# Altium footprint library Cypress Footprints.PcbLib: 193 footprints (part 2 of 13)
Each footprint in its own frame and in the unit in brackets; x right, y up, seen from the top. Pads: shape width x height; smd on the part's side, far side on the other; paste and mask are expansions set on the pad; w line width, h text height; cw(c..) or ccw(c..) is an arc to the next point about the centre after c.
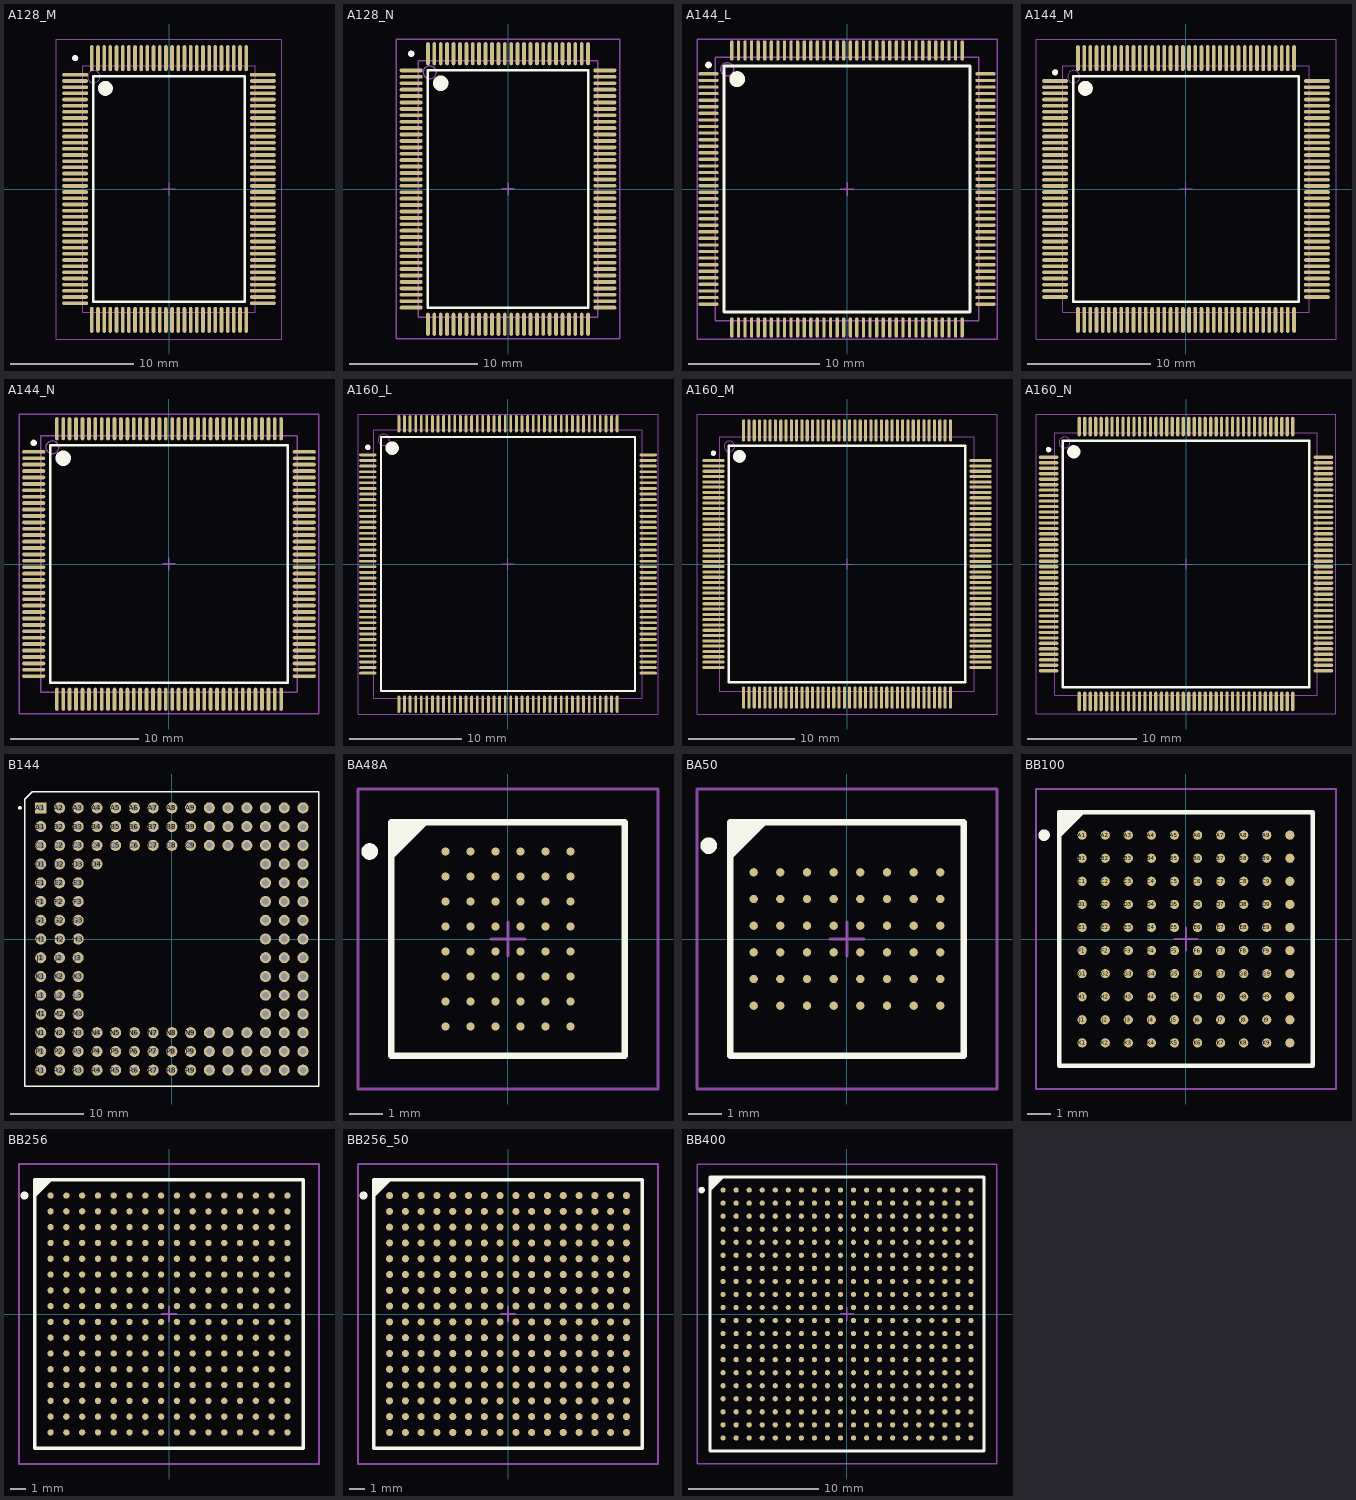
[diagram p1: the footprints below, top view; thin cyan lines are the x and y axes]

## A128_M [mm] "128-Pin Thin Quad Flat Pack Rectangular 0.5 mm Pitch, IPC Low Density"
height 1.6
pads (128):
  oval 2.1x0.3 smd: 1(-7.6,9.25) 2(-7.6,8.75) 3(-7.6,8.25) 4(-7.6,7.75) 5(-7.6,7.25) 6(-7.6,6.75) 7(-7.6,6.25) 8(-7.6,5.75) 9(-7.6,5.25) 10(-7.6,4.75) 11(-7.6,4.25) 12(-7.6,3.75) 13(-7.6,3.25) 14(-7.6,2.75) 15(-7.6,2.25) 16(-7.6,1.75) 17(-7.6,1.25) 18(-7.6,0.75) 19(-7.6,0.25) 20(-7.6,-0.25) 21(-7.6,-0.75) 22(-7.6,-1.25) 23(-7.6,-1.75) 24(-7.6,-2.25) 25(-7.6,-2.75) 26(-7.6,-3.25) 27(-7.6,-3.75) 28(-7.6,-4.25) 29(-7.6,-4.75) 30(-7.6,-5.25) 31(-7.6,-5.75) 32(-7.6,-6.25) 33(-7.6,-6.75) 34(-7.6,-7.25) 35(-7.6,-7.75) 36(-7.6,-8.25) 37(-7.6,-8.75) 38(-7.6,-9.25) 65(7.6,-9.25) 66(7.6,-8.75) 67(7.6,-8.25) 68(7.6,-7.75) 69(7.6,-7.25) 70(7.6,-6.75) 71(7.6,-6.25) 72(7.6,-5.75) 73(7.6,-5.25) 74(7.6,-4.75) 75(7.6,-4.25) 76(7.6,-3.75) 77(7.6,-3.25) 78(7.6,-2.75) 79(7.6,-2.25) 80(7.6,-1.75) 81(7.6,-1.25) 82(7.6,-0.75) 83(7.6,-0.25) 84(7.6,0.25) 85(7.6,0.75) 86(7.6,1.25) 87(7.6,1.75) 88(7.6,2.25) 89(7.6,2.75) 90(7.6,3.25) 91(7.6,3.75) 92(7.6,4.25) 93(7.6,4.75) 94(7.6,5.25) 95(7.6,5.75) 96(7.6,6.25) 97(7.6,6.75) 98(7.6,7.25) 99(7.6,7.75) 100(7.6,8.25) 101(7.6,8.75) 102(7.6,9.25)
  oval 0.3x2.1 smd: 39(-6.25,-10.6) 40(-5.75,-10.6) 41(-5.25,-10.6) 42(-4.75,-10.6) 43(-4.25,-10.6) 44(-3.75,-10.6) 45(-3.25,-10.6) 46(-2.75,-10.6) 47(-2.25,-10.6) 48(-1.75,-10.6) 49(-1.25,-10.6) 50(-0.75,-10.6) 51(-0.25,-10.6) 52(0.25,-10.6) 53(0.75,-10.6) 54(1.25,-10.6) 55(1.75,-10.6) 56(2.25,-10.6) 57(2.75,-10.6) 58(3.25,-10.6) 59(3.75,-10.6) 60(4.25,-10.6) 61(4.75,-10.6) 62(5.25,-10.6) 63(5.75,-10.6) 64(6.25,-10.6) 103(6.25,10.6) 104(5.75,10.6) 105(5.25,10.6) 106(4.75,10.6) 107(4.25,10.6) 108(3.75,10.6) 109(3.25,10.6) 110(2.75,10.6) 111(2.25,10.6) 112(1.75,10.6) 113(1.25,10.6) 114(0.75,10.6) 115(0.25,10.6) 116(-0.25,10.6) 117(-0.75,10.6) 118(-1.25,10.6) 119(-1.75,10.6) 120(-2.25,10.6) 121(-2.75,10.6) 122(-3.25,10.6) 123(-3.75,10.6) 124(-4.25,10.6) 125(-4.75,10.6) 126(-5.25,10.6) 127(-5.75,10.6) 128(-6.25,10.6)
Top Overlay:
  circle w0.25: c-7.6,10.6 r0.125
  circle w0.6: c-5.15,8.15 r0.3
  lines w0.2: -6.15,-9.15 -6.15,9.15 6.15,9.15 6.15,-9.15 -6.15,-9.15
Mechanical 13:
  circle w0.1: c-6.1,9.1 r0.5
  lines w0.1: -7,-10 -7,10 7,10 7,-10 -7,-10
Mechanical 15:
  lines w0.1: -0.5,0 0.5,0 ; 0,-0.5 0,0.5 ; -9.15,-12.15 -9.15,12.15 9.15,12.15 9.15,-12.15 -9.15,-12.15
3D body: height 1.6, standoff 0, extent -7,-10 7,10

## A128_N [mm] "128-Pin Thin Quad Flat Pack Rectangular 0.5 mm Pitch, IPC Medium Density"
height 1.6
pads (128):
  oval 1.8x0.3 smd: 1(-7.55,9.25) 2(-7.55,8.75) 3(-7.55,8.25) 4(-7.55,7.75) 5(-7.55,7.25) 6(-7.55,6.75) 7(-7.55,6.25) 8(-7.55,5.75) 9(-7.55,5.25) 10(-7.55,4.75) 11(-7.55,4.25) 12(-7.55,3.75) 13(-7.55,3.25) 14(-7.55,2.75) 15(-7.55,2.25) 16(-7.55,1.75) 17(-7.55,1.25) 18(-7.55,0.75) 19(-7.55,0.25) 20(-7.55,-0.25) 21(-7.55,-0.75) 22(-7.55,-1.25) 23(-7.55,-1.75) 24(-7.55,-2.25) 25(-7.55,-2.75) 26(-7.55,-3.25) 27(-7.55,-3.75) 28(-7.55,-4.25) 29(-7.55,-4.75) 30(-7.55,-5.25) 31(-7.55,-5.75) 32(-7.55,-6.25) 33(-7.55,-6.75) 34(-7.55,-7.25) 35(-7.55,-7.75) 36(-7.55,-8.25) 37(-7.55,-8.75) 38(-7.55,-9.25) 65(7.55,-9.25) 66(7.55,-8.75) 67(7.55,-8.25) 68(7.55,-7.75) 69(7.55,-7.25) 70(7.55,-6.75) 71(7.55,-6.25) 72(7.55,-5.75) 73(7.55,-5.25) 74(7.55,-4.75) 75(7.55,-4.25) 76(7.55,-3.75) 77(7.55,-3.25) 78(7.55,-2.75) 79(7.55,-2.25) 80(7.55,-1.75) 81(7.55,-1.25) 82(7.55,-0.75) 83(7.55,-0.25) 84(7.55,0.25) 85(7.55,0.75) 86(7.55,1.25) 87(7.55,1.75) 88(7.55,2.25) 89(7.55,2.75) 90(7.55,3.25) 91(7.55,3.75) 92(7.55,4.25) 93(7.55,4.75) 94(7.55,5.25) 95(7.55,5.75) 96(7.55,6.25) 97(7.55,6.75) 98(7.55,7.25) 99(7.55,7.75) 100(7.55,8.25) 101(7.55,8.75) 102(7.55,9.25)
  oval 0.3x1.8 smd: 39(-6.25,-10.55) 40(-5.75,-10.55) 41(-5.25,-10.55) 42(-4.75,-10.55) 43(-4.25,-10.55) 44(-3.75,-10.55) 45(-3.25,-10.55) 46(-2.75,-10.55) 47(-2.25,-10.55) 48(-1.75,-10.55) 49(-1.25,-10.55) 50(-0.75,-10.55) 51(-0.25,-10.55) 52(0.25,-10.55) 53(0.75,-10.55) 54(1.25,-10.55) 55(1.75,-10.55) 56(2.25,-10.55) 57(2.75,-10.55) 58(3.25,-10.55) 59(3.75,-10.55) 60(4.25,-10.55) 61(4.75,-10.55) 62(5.25,-10.55) 63(5.75,-10.55) 64(6.25,-10.55) 103(6.25,10.55) 104(5.75,10.55) 105(5.25,10.55) 106(4.75,10.55) 107(4.25,10.55) 108(3.75,10.55) 109(3.25,10.55) 110(2.75,10.55) 111(2.25,10.55) 112(1.75,10.55) 113(1.25,10.55) 114(0.75,10.55) 115(0.25,10.55) 116(-0.25,10.55) 117(-0.75,10.55) 118(-1.25,10.55) 119(-1.75,10.55) 120(-2.25,10.55) 121(-2.75,10.55) 122(-3.25,10.55) 123(-3.75,10.55) 124(-4.25,10.55) 125(-4.75,10.55) 126(-5.25,10.55) 127(-5.75,10.55) 128(-6.25,10.55)
Top Overlay:
  circle w0.25: c-7.55,10.55 r0.125
  circle w0.6: c-5.25,8.25 r0.3
  lines w0.2: -6.25,-9.25 -6.25,9.25 6.25,9.25 6.25,-9.25 -6.25,-9.25
Mechanical 13:
  circle w0.1: c-6.1,9.1 r0.5
  lines w0.1: -7,-10 -7,10 7,10 7,-10 -7,-10
Mechanical 15:
  lines w0.1: -0.5,0 0.5,0 ; 0,-0.5 0,0.5 ; -8.7,-11.7 -8.7,11.7 8.7,11.7 8.7,-11.7 -8.7,-11.7
3D body: height 1.6, standoff 0, extent -7,-10 7,10

## A144_L [mm] "144-Pin Thin Quad Flat Pack 0.5 mm Pitch, IPC High Density"
height 1.6
pads (144):
  oval 1.55x0.25 smd: 1(-10.525,8.75) 2(-10.525,8.25) 3(-10.525,7.75) 4(-10.525,7.25) 5(-10.525,6.75) 6(-10.525,6.25) 7(-10.525,5.75) 8(-10.525,5.25) 9(-10.525,4.75) 10(-10.525,4.25) 11(-10.525,3.75) 12(-10.525,3.25) 13(-10.525,2.75) 14(-10.525,2.25) 15(-10.525,1.75) 16(-10.525,1.25) 17(-10.525,0.75) 18(-10.525,0.25) 19(-10.525,-0.25) 20(-10.525,-0.75) 21(-10.525,-1.25) 22(-10.525,-1.75) 23(-10.525,-2.25) 24(-10.525,-2.75) 25(-10.525,-3.25) 26(-10.525,-3.75) 27(-10.525,-4.25) 28(-10.525,-4.75) 29(-10.525,-5.25) 30(-10.525,-5.75) 31(-10.525,-6.25) 32(-10.525,-6.75) 33(-10.525,-7.25) 34(-10.525,-7.75) 35(-10.525,-8.25) 36(-10.525,-8.75) 73(10.525,-8.75) 74(10.525,-8.25) 75(10.525,-7.75) 76(10.525,-7.25) 77(10.525,-6.75) 78(10.525,-6.25) 79(10.525,-5.75) 80(10.525,-5.25) 81(10.525,-4.75) 82(10.525,-4.25) 83(10.525,-3.75) 84(10.525,-3.25) 85(10.525,-2.75) 86(10.525,-2.25) 87(10.525,-1.75) 88(10.525,-1.25) 89(10.525,-0.75) 90(10.525,-0.25) 91(10.525,0.25) 92(10.525,0.75) 93(10.525,1.25) 94(10.525,1.75) 95(10.525,2.25) 96(10.525,2.75) 97(10.525,3.25) 98(10.525,3.75) 99(10.525,4.25) 100(10.525,4.75) 101(10.525,5.25) 102(10.525,5.75) 103(10.525,6.25) 104(10.525,6.75) 105(10.525,7.25) 106(10.525,7.75) 107(10.525,8.25) 108(10.525,8.75)
  oval 0.25x1.55 smd: 37(-8.75,-10.525) 38(-8.25,-10.525) 39(-7.75,-10.525) 40(-7.25,-10.525) 41(-6.75,-10.525) 42(-6.25,-10.525) 43(-5.75,-10.525) 44(-5.25,-10.525) 45(-4.75,-10.525) 46(-4.25,-10.525) 47(-3.75,-10.525) 48(-3.25,-10.525) 49(-2.75,-10.525) 50(-2.25,-10.525) 51(-1.75,-10.525) 52(-1.25,-10.525) 53(-0.75,-10.525) 54(-0.25,-10.525) 55(0.25,-10.525) 56(0.75,-10.525) 57(1.25,-10.525) 58(1.75,-10.525) 59(2.25,-10.525) 60(2.75,-10.525) 61(3.25,-10.525) 62(3.75,-10.525) 63(4.25,-10.525) 64(4.75,-10.525) 65(5.25,-10.525) 66(5.75,-10.525) 67(6.25,-10.525) 68(6.75,-10.525) 69(7.25,-10.525) 70(7.75,-10.525) 71(8.25,-10.525) 72(8.75,-10.525) 109(8.75,10.525) 110(8.25,10.525) 111(7.75,10.525) 112(7.25,10.525) 113(6.75,10.525) 114(6.25,10.525) 115(5.75,10.525) 116(5.25,10.525) 117(4.75,10.525) 118(4.25,10.525) 119(3.75,10.525) 120(3.25,10.525) 121(2.75,10.525) 122(2.25,10.525) 123(1.75,10.525) 124(1.25,10.525) 125(0.75,10.525) 126(0.25,10.525) 127(-0.25,10.525) 128(-0.75,10.525) 129(-1.25,10.525) 130(-1.75,10.525) 131(-2.25,10.525) 132(-2.75,10.525) 133(-3.25,10.525) 134(-3.75,10.525) 135(-4.25,10.525) 136(-4.75,10.525) 137(-5.25,10.525) 138(-5.75,10.525) 139(-6.25,10.525) 140(-6.75,10.525) 141(-7.25,10.525) 142(-7.75,10.525) 143(-8.25,10.525) 144(-8.75,10.525)
Top Overlay:
  circle w0.6: c-8.35,8.35 r0.3
  circle w0.25: c-10.525,9.425 r0.125
  lines w0.2: -9.35,-9.35 9.35,-9.35 9.35,9.35 -9.35,9.35 -9.35,-9.35
Mechanical 13:
  circle w0.1: c-9.1,9.1 r0.5
  lines w0.1: -10,-10 10,-10 10,10 -10,10 -10,-10
Mechanical 15:
  lines w0.1: -0.5,0 0.5,0 ; 0,-0.5 0,0.5 ; -11.4,-11.4 11.4,-11.4 11.4,11.4 -11.4,11.4 -11.4,-11.4
3D body: height 1.6, standoff 0, extent -10,-10 10,10

## A144_M [mm] "144-Pin Thin Quad Flat Pack 0.5 mm Pitch, IPC Low Density"
height 1.6
pads (144):
  oval 2.1x0.3 smd: 1(-10.6,8.75) 2(-10.6,8.25) 3(-10.6,7.75) 4(-10.6,7.25) 5(-10.6,6.75) 6(-10.6,6.25) 7(-10.6,5.75) 8(-10.6,5.25) 9(-10.6,4.75) 10(-10.6,4.25) 11(-10.6,3.75) 12(-10.6,3.25) 13(-10.6,2.75) 14(-10.6,2.25) 15(-10.6,1.75) 16(-10.6,1.25) 17(-10.6,0.75) 18(-10.6,0.25) 19(-10.6,-0.25) 20(-10.6,-0.75) 21(-10.6,-1.25) 22(-10.6,-1.75) 23(-10.6,-2.25) 24(-10.6,-2.75) 25(-10.6,-3.25) 26(-10.6,-3.75) 27(-10.6,-4.25) 28(-10.6,-4.75) 29(-10.6,-5.25) 30(-10.6,-5.75) 31(-10.6,-6.25) 32(-10.6,-6.75) 33(-10.6,-7.25) 34(-10.6,-7.75) 35(-10.6,-8.25) 36(-10.6,-8.75) 73(10.6,-8.75) 74(10.6,-8.25) 75(10.6,-7.75) 76(10.6,-7.25) 77(10.6,-6.75) 78(10.6,-6.25) 79(10.6,-5.75) 80(10.6,-5.25) 81(10.6,-4.75) 82(10.6,-4.25) 83(10.6,-3.75) 84(10.6,-3.25) 85(10.6,-2.75) 86(10.6,-2.25) 87(10.6,-1.75) 88(10.6,-1.25) 89(10.6,-0.75) 90(10.6,-0.25) 91(10.6,0.25) 92(10.6,0.75) 93(10.6,1.25) 94(10.6,1.75) 95(10.6,2.25) 96(10.6,2.75) 97(10.6,3.25) 98(10.6,3.75) 99(10.6,4.25) 100(10.6,4.75) 101(10.6,5.25) 102(10.6,5.75) 103(10.6,6.25) 104(10.6,6.75) 105(10.6,7.25) 106(10.6,7.75) 107(10.6,8.25) 108(10.6,8.75)
  oval 0.3x2.1 smd: 37(-8.75,-10.6) 38(-8.25,-10.6) 39(-7.75,-10.6) 40(-7.25,-10.6) 41(-6.75,-10.6) 42(-6.25,-10.6) 43(-5.75,-10.6) 44(-5.25,-10.6) 45(-4.75,-10.6) 46(-4.25,-10.6) 47(-3.75,-10.6) 48(-3.25,-10.6) 49(-2.75,-10.6) 50(-2.25,-10.6) 51(-1.75,-10.6) 52(-1.25,-10.6) 53(-0.75,-10.6) 54(-0.25,-10.6) 55(0.25,-10.6) 56(0.75,-10.6) 57(1.25,-10.6) 58(1.75,-10.6) 59(2.25,-10.6) 60(2.75,-10.6) 61(3.25,-10.6) 62(3.75,-10.6) 63(4.25,-10.6) 64(4.75,-10.6) 65(5.25,-10.6) 66(5.75,-10.6) 67(6.25,-10.6) 68(6.75,-10.6) 69(7.25,-10.6) 70(7.75,-10.6) 71(8.25,-10.6) 72(8.75,-10.6) 109(8.75,10.6) 110(8.25,10.6) 111(7.75,10.6) 112(7.25,10.6) 113(6.75,10.6) 114(6.25,10.6) 115(5.75,10.6) 116(5.25,10.6) 117(4.75,10.6) 118(4.25,10.6) 119(3.75,10.6) 120(3.25,10.6) 121(2.75,10.6) 122(2.25,10.6) 123(1.75,10.6) 124(1.25,10.6) 125(0.75,10.6) 126(0.25,10.6) 127(-0.25,10.6) 128(-0.75,10.6) 129(-1.25,10.6) 130(-1.75,10.6) 131(-2.25,10.6) 132(-2.75,10.6) 133(-3.25,10.6) 134(-3.75,10.6) 135(-4.25,10.6) 136(-4.75,10.6) 137(-5.25,10.6) 138(-5.75,10.6) 139(-6.25,10.6) 140(-6.75,10.6) 141(-7.25,10.6) 142(-7.75,10.6) 143(-8.25,10.6) 144(-8.75,10.6)
Top Overlay:
  circle w0.6: c-8.15,8.15 r0.3
  circle w0.25: c-10.6,9.45 r0.125
  lines w0.2: -9.15,-9.15 9.15,-9.15 9.15,9.15 -9.15,9.15 -9.15,-9.15
Mechanical 13:
  circle w0.1: c-9.1,9.1 r0.5
  lines w0.1: -10,-10 10,-10 10,10 -10,10 -10,-10
Mechanical 15:
  lines w0.1: -0.5,0 0.5,0 ; 0,-0.5 0,0.5 ; -12.15,-12.15 12.15,-12.15 12.15,12.15 -12.15,12.15 -12.15,-12.15
3D body: height 1.6, standoff 0, extent -10,-10 10,10

## A144_N [mm] "144-Pin Thin Quad Flat Pack 0.5 mm Pitch, IPC Medium Density"
height 1.6
pads (144):
  oval 1.8x0.3 smd: 1(-10.55,8.75) 2(-10.55,8.25) 3(-10.55,7.75) 4(-10.55,7.25) 5(-10.55,6.75) 6(-10.55,6.25) 7(-10.55,5.75) 8(-10.55,5.25) 9(-10.55,4.75) 10(-10.55,4.25) 11(-10.55,3.75) 12(-10.55,3.25) 13(-10.55,2.75) 14(-10.55,2.25) 15(-10.55,1.75) 16(-10.55,1.25) 17(-10.55,0.75) 18(-10.55,0.25) 19(-10.55,-0.25) 20(-10.55,-0.75) 21(-10.55,-1.25) 22(-10.55,-1.75) 23(-10.55,-2.25) 24(-10.55,-2.75) 25(-10.55,-3.25) 26(-10.55,-3.75) 27(-10.55,-4.25) 28(-10.55,-4.75) 29(-10.55,-5.25) 30(-10.55,-5.75) 31(-10.55,-6.25) 32(-10.55,-6.75) 33(-10.55,-7.25) 34(-10.55,-7.75) 35(-10.55,-8.25) 36(-10.55,-8.75) 73(10.55,-8.75) 74(10.55,-8.25) 75(10.55,-7.75) 76(10.55,-7.25) 77(10.55,-6.75) 78(10.55,-6.25) 79(10.55,-5.75) 80(10.55,-5.25) 81(10.55,-4.75) 82(10.55,-4.25) 83(10.55,-3.75) 84(10.55,-3.25) 85(10.55,-2.75) 86(10.55,-2.25) 87(10.55,-1.75) 88(10.55,-1.25) 89(10.55,-0.75) 90(10.55,-0.25) 91(10.55,0.25) 92(10.55,0.75) 93(10.55,1.25) 94(10.55,1.75) 95(10.55,2.25) 96(10.55,2.75) 97(10.55,3.25) 98(10.55,3.75) 99(10.55,4.25) 100(10.55,4.75) 101(10.55,5.25) 102(10.55,5.75) 103(10.55,6.25) 104(10.55,6.75) 105(10.55,7.25) 106(10.55,7.75) 107(10.55,8.25) 108(10.55,8.75)
  oval 0.3x1.8 smd: 37(-8.75,-10.55) 38(-8.25,-10.55) 39(-7.75,-10.55) 40(-7.25,-10.55) 41(-6.75,-10.55) 42(-6.25,-10.55) 43(-5.75,-10.55) 44(-5.25,-10.55) 45(-4.75,-10.55) 46(-4.25,-10.55) 47(-3.75,-10.55) 48(-3.25,-10.55) 49(-2.75,-10.55) 50(-2.25,-10.55) 51(-1.75,-10.55) 52(-1.25,-10.55) 53(-0.75,-10.55) 54(-0.25,-10.55) 55(0.25,-10.55) 56(0.75,-10.55) 57(1.25,-10.55) 58(1.75,-10.55) 59(2.25,-10.55) 60(2.75,-10.55) 61(3.25,-10.55) 62(3.75,-10.55) 63(4.25,-10.55) 64(4.75,-10.55) 65(5.25,-10.55) 66(5.75,-10.55) 67(6.25,-10.55) 68(6.75,-10.55) 69(7.25,-10.55) 70(7.75,-10.55) 71(8.25,-10.55) 72(8.75,-10.55) 109(8.75,10.55) 110(8.25,10.55) 111(7.75,10.55) 112(7.25,10.55) 113(6.75,10.55) 114(6.25,10.55) 115(5.75,10.55) 116(5.25,10.55) 117(4.75,10.55) 118(4.25,10.55) 119(3.75,10.55) 120(3.25,10.55) 121(2.75,10.55) 122(2.25,10.55) 123(1.75,10.55) 124(1.25,10.55) 125(0.75,10.55) 126(0.25,10.55) 127(-0.25,10.55) 128(-0.75,10.55) 129(-1.25,10.55) 130(-1.75,10.55) 131(-2.25,10.55) 132(-2.75,10.55) 133(-3.25,10.55) 134(-3.75,10.55) 135(-4.25,10.55) 136(-4.75,10.55) 137(-5.25,10.55) 138(-5.75,10.55) 139(-6.25,10.55) 140(-6.75,10.55) 141(-7.25,10.55) 142(-7.75,10.55) 143(-8.25,10.55) 144(-8.75,10.55)
Top Overlay:
  circle w0.25: c-10.55,9.45 r0.125
  circle w0.6: c-8.25,8.25 r0.3
  lines w0.2: -9.25,-9.25 -9.25,9.25 9.25,9.25 9.25,-9.25 -9.25,-9.25
Mechanical 13:
  circle w0.1: c-9.1,9.1 r0.5
  lines w0.1: -10,-10 -10,10 10,10 10,-10 -10,-10
Mechanical 15:
  lines w0.1: -0.5,0 0.5,0 ; 0,-0.5 0,0.5 ; -11.7,-11.7 -11.7,11.7 11.7,11.7 11.7,-11.7 -11.7,-11.7
3D body: height 1.6, standoff 0, extent -10,-10 10,10

## A160_L [mm] "160-Pin Thin Quad Flat Pack 0.5 mm Pitch, IPC High Density"
height 1.6
pads (160):
  oval 1.55x0.25 smd: 1(-12.525,9.75) 2(-12.525,9.25) 3(-12.525,8.75) 4(-12.525,8.25) 5(-12.525,7.75) 6(-12.525,7.25) 7(-12.525,6.75) 8(-12.525,6.25) 9(-12.525,5.75) 10(-12.525,5.25) 11(-12.525,4.75) 12(-12.525,4.25) 13(-12.525,3.75) 14(-12.525,3.25) 15(-12.525,2.75) 16(-12.525,2.25) 17(-12.525,1.75) 18(-12.525,1.25) 19(-12.525,0.75) 20(-12.525,0.25) 21(-12.525,-0.25) 22(-12.525,-0.75) 23(-12.525,-1.25) 24(-12.525,-1.75) 25(-12.525,-2.25) 26(-12.525,-2.75) 27(-12.525,-3.25) 28(-12.525,-3.75) 29(-12.525,-4.25) 30(-12.525,-4.75) 31(-12.525,-5.25) 32(-12.525,-5.75) 33(-12.525,-6.25) 34(-12.525,-6.75) 35(-12.525,-7.25) 36(-12.525,-7.75) 37(-12.525,-8.25) 38(-12.525,-8.75) 39(-12.525,-9.25) 40(-12.525,-9.75) 81(12.525,-9.75) 82(12.525,-9.25) 83(12.525,-8.75) 84(12.525,-8.25) 85(12.525,-7.75) 86(12.525,-7.25) 87(12.525,-6.75) 88(12.525,-6.25) 89(12.525,-5.75) 90(12.525,-5.25) 91(12.525,-4.75) 92(12.525,-4.25) 93(12.525,-3.75) 94(12.525,-3.25) 95(12.525,-2.75) 96(12.525,-2.25) 97(12.525,-1.75) 98(12.525,-1.25) 99(12.525,-0.75) 100(12.525,-0.25) 101(12.525,0.25) 102(12.525,0.75) 103(12.525,1.25) 104(12.525,1.75) 105(12.525,2.25) 106(12.525,2.75) 107(12.525,3.25) 108(12.525,3.75) 109(12.525,4.25) 110(12.525,4.75) 111(12.525,5.25) 112(12.525,5.75) 113(12.525,6.25) 114(12.525,6.75) 115(12.525,7.25) 116(12.525,7.75) 117(12.525,8.25) 118(12.525,8.75) 119(12.525,9.25) 120(12.525,9.75)
  oval 0.25x1.55 smd: 41(-9.75,-12.525) 42(-9.25,-12.525) 43(-8.75,-12.525) 44(-8.25,-12.525) 45(-7.75,-12.525) 46(-7.25,-12.525) 47(-6.75,-12.525) 48(-6.25,-12.525) 49(-5.75,-12.525) 50(-5.25,-12.525) 51(-4.75,-12.525) 52(-4.25,-12.525) 53(-3.75,-12.525) 54(-3.25,-12.525) 55(-2.75,-12.525) 56(-2.25,-12.525) 57(-1.75,-12.525) 58(-1.25,-12.525) 59(-0.75,-12.525) 60(-0.25,-12.525) 61(0.25,-12.525) 62(0.75,-12.525) 63(1.25,-12.525) 64(1.75,-12.525) 65(2.25,-12.525) 66(2.75,-12.525) 67(3.25,-12.525) 68(3.75,-12.525) 69(4.25,-12.525) 70(4.75,-12.525) 71(5.25,-12.525) 72(5.75,-12.525) 73(6.25,-12.525) 74(6.75,-12.525) 75(7.25,-12.525) 76(7.75,-12.525) 77(8.25,-12.525) 78(8.75,-12.525) 79(9.25,-12.525) 80(9.75,-12.525) 121(9.75,12.525) 122(9.25,12.525) 123(8.75,12.525) 124(8.25,12.525) 125(7.75,12.525) 126(7.25,12.525) 127(6.75,12.525) 128(6.25,12.525) 129(5.75,12.525) 130(5.25,12.525) 131(4.75,12.525) 132(4.25,12.525) 133(3.75,12.525) 134(3.25,12.525) 135(2.75,12.525) 136(2.25,12.525) 137(1.75,12.525) 138(1.25,12.525) 139(0.75,12.525) 140(0.25,12.525) 141(-0.25,12.525) 142(-0.75,12.525) 143(-1.25,12.525) 144(-1.75,12.525) 145(-2.25,12.525) 146(-2.75,12.525) 147(-3.25,12.525) 148(-3.75,12.525) 149(-4.25,12.525) 150(-4.75,12.525) 151(-5.25,12.525) 152(-5.75,12.525) 153(-6.25,12.525) 154(-6.75,12.525) 155(-7.25,12.525) 156(-7.75,12.525) 157(-8.25,12.525) 158(-8.75,12.525) 159(-9.25,12.525) 160(-9.75,12.525)
Top Overlay:
  circle w0.6: c-10.35,10.35 r0.3
  circle w0.25: c-12.525,10.425 r0.125
  lines w0.2: -11.35,-11.35 11.35,-11.35 11.35,11.35 -11.35,11.35 -11.35,-11.35
Mechanical 13:
  circle w0.1: c-11.1,11.1 r0.5
  lines w0.1: -12,-12 12,-12 12,12 -12,12 -12,-12
Mechanical 15:
  lines w0.1: -0.5,0 0.5,0 ; 0,-0.5 0,0.5 ; -13.4,-13.4 13.4,-13.4 13.4,13.4 -13.4,13.4 -13.4,-13.4
3D body: height 1.6, standoff 0, extent -12,-12 12,12

## A160_M [mm] "160-Pin Thin Quad Flat Pack 0.5 mm Pitch, IPC Low Density"
height 1.6
pads (160):
  oval 2.1x0.3 smd: 1(-12.6,9.75) 2(-12.6,9.25) 3(-12.6,8.75) 4(-12.6,8.25) 5(-12.6,7.75) 6(-12.6,7.25) 7(-12.6,6.75) 8(-12.6,6.25) 9(-12.6,5.75) 10(-12.6,5.25) 11(-12.6,4.75) 12(-12.6,4.25) 13(-12.6,3.75) 14(-12.6,3.25) 15(-12.6,2.75) 16(-12.6,2.25) 17(-12.6,1.75) 18(-12.6,1.25) 19(-12.6,0.75) 20(-12.6,0.25) 21(-12.6,-0.25) 22(-12.6,-0.75) 23(-12.6,-1.25) 24(-12.6,-1.75) 25(-12.6,-2.25) 26(-12.6,-2.75) 27(-12.6,-3.25) 28(-12.6,-3.75) 29(-12.6,-4.25) 30(-12.6,-4.75) 31(-12.6,-5.25) 32(-12.6,-5.75) 33(-12.6,-6.25) 34(-12.6,-6.75) 35(-12.6,-7.25) 36(-12.6,-7.75) 37(-12.6,-8.25) 38(-12.6,-8.75) 39(-12.6,-9.25) 40(-12.6,-9.75) 81(12.6,-9.75) 82(12.6,-9.25) 83(12.6,-8.75) 84(12.6,-8.25) 85(12.6,-7.75) 86(12.6,-7.25) 87(12.6,-6.75) 88(12.6,-6.25) 89(12.6,-5.75) 90(12.6,-5.25) 91(12.6,-4.75) 92(12.6,-4.25) 93(12.6,-3.75) 94(12.6,-3.25) 95(12.6,-2.75) 96(12.6,-2.25) 97(12.6,-1.75) 98(12.6,-1.25) 99(12.6,-0.75) 100(12.6,-0.25) 101(12.6,0.25) 102(12.6,0.75) 103(12.6,1.25) 104(12.6,1.75) 105(12.6,2.25) 106(12.6,2.75) 107(12.6,3.25) 108(12.6,3.75) 109(12.6,4.25) 110(12.6,4.75) 111(12.6,5.25) 112(12.6,5.75) 113(12.6,6.25) 114(12.6,6.75) 115(12.6,7.25) 116(12.6,7.75) 117(12.6,8.25) 118(12.6,8.75) 119(12.6,9.25) 120(12.6,9.75)
  oval 0.3x2.1 smd: 41(-9.75,-12.6) 42(-9.25,-12.6) 43(-8.75,-12.6) 44(-8.25,-12.6) 45(-7.75,-12.6) 46(-7.25,-12.6) 47(-6.75,-12.6) 48(-6.25,-12.6) 49(-5.75,-12.6) 50(-5.25,-12.6) 51(-4.75,-12.6) 52(-4.25,-12.6) 53(-3.75,-12.6) 54(-3.25,-12.6) 55(-2.75,-12.6) 56(-2.25,-12.6) 57(-1.75,-12.6) 58(-1.25,-12.6) 59(-0.75,-12.6) 60(-0.25,-12.6) 61(0.25,-12.6) 62(0.75,-12.6) 63(1.25,-12.6) 64(1.75,-12.6) 65(2.25,-12.6) 66(2.75,-12.6) 67(3.25,-12.6) 68(3.75,-12.6) 69(4.25,-12.6) 70(4.75,-12.6) 71(5.25,-12.6) 72(5.75,-12.6) 73(6.25,-12.6) 74(6.75,-12.6) 75(7.25,-12.6) 76(7.75,-12.6) 77(8.25,-12.6) 78(8.75,-12.6) 79(9.25,-12.6) 80(9.75,-12.6) 121(9.75,12.6) 122(9.25,12.6) 123(8.75,12.6) 124(8.25,12.6) 125(7.75,12.6) 126(7.25,12.6) 127(6.75,12.6) 128(6.25,12.6) 129(5.75,12.6) 130(5.25,12.6) 131(4.75,12.6) 132(4.25,12.6) 133(3.75,12.6) 134(3.25,12.6) 135(2.75,12.6) 136(2.25,12.6) 137(1.75,12.6) 138(1.25,12.6) 139(0.75,12.6) 140(0.25,12.6) 141(-0.25,12.6) 142(-0.75,12.6) 143(-1.25,12.6) 144(-1.75,12.6) 145(-2.25,12.6) 146(-2.75,12.6) 147(-3.25,12.6) 148(-3.75,12.6) 149(-4.25,12.6) 150(-4.75,12.6) 151(-5.25,12.6) 152(-5.75,12.6) 153(-6.25,12.6) 154(-6.75,12.6) 155(-7.25,12.6) 156(-7.75,12.6) 157(-8.25,12.6) 158(-8.75,12.6) 159(-9.25,12.6) 160(-9.75,12.6)
Top Overlay:
  circle w0.6: c-10.15,10.15 r0.3
  circle w0.25: c-12.6,10.45 r0.125
  lines w0.2: -11.15,-11.15 11.15,-11.15 11.15,11.15 -11.15,11.15 -11.15,-11.15
Mechanical 13:
  circle w0.1: c-11.1,11.1 r0.5
  lines w0.1: -12,-12 12,-12 12,12 -12,12 -12,-12
Mechanical 15:
  lines w0.1: -0.5,0 0.5,0 ; 0,-0.5 0,0.5 ; -14.15,-14.15 14.15,-14.15 14.15,14.15 -14.15,14.15 -14.15,-14.15
3D body: height 1.6, standoff 0, extent -12,-12 12,12

## A160_N [mm] "160-Pin Thin Quad Flat Pack 0.5 mm Pitch, IPC Medium Density"
height 1.6
pads (160):
  oval 1.8x0.3 smd: 1(-12.55,9.75) 2(-12.55,9.25) 3(-12.55,8.75) 4(-12.55,8.25) 5(-12.55,7.75) 6(-12.55,7.25) 7(-12.55,6.75) 8(-12.55,6.25) 9(-12.55,5.75) 10(-12.55,5.25) 11(-12.55,4.75) 12(-12.55,4.25) 13(-12.55,3.75) 14(-12.55,3.25) 15(-12.55,2.75) 16(-12.55,2.25) 17(-12.55,1.75) 18(-12.55,1.25) 19(-12.55,0.75) 20(-12.55,0.25) 21(-12.55,-0.25) 22(-12.55,-0.75) 23(-12.55,-1.25) 24(-12.55,-1.75) 25(-12.55,-2.25) 26(-12.55,-2.75) 27(-12.55,-3.25) 28(-12.55,-3.75) 29(-12.55,-4.25) 30(-12.55,-4.75) 31(-12.55,-5.25) 32(-12.55,-5.75) 33(-12.55,-6.25) 34(-12.55,-6.75) 35(-12.55,-7.25) 36(-12.55,-7.75) 37(-12.55,-8.25) 38(-12.55,-8.75) 39(-12.55,-9.25) 40(-12.55,-9.75) 81(12.55,-9.75) 82(12.55,-9.25) 83(12.55,-8.75) 84(12.55,-8.25) 85(12.55,-7.75) 86(12.55,-7.25) 87(12.55,-6.75) 88(12.55,-6.25) 89(12.55,-5.75) 90(12.55,-5.25) 91(12.55,-4.75) 92(12.55,-4.25) 93(12.55,-3.75) 94(12.55,-3.25) 95(12.55,-2.75) 96(12.55,-2.25) 97(12.55,-1.75) 98(12.55,-1.25) 99(12.55,-0.75) 100(12.55,-0.25) 101(12.55,0.25) 102(12.55,0.75) 103(12.55,1.25) 104(12.55,1.75) 105(12.55,2.25) 106(12.55,2.75) 107(12.55,3.25) 108(12.55,3.75) 109(12.55,4.25) 110(12.55,4.75) 111(12.55,5.25) 112(12.55,5.75) 113(12.55,6.25) 114(12.55,6.75) 115(12.55,7.25) 116(12.55,7.75) 117(12.55,8.25) 118(12.55,8.75) 119(12.55,9.25) 120(12.55,9.75)
  oval 0.3x1.8 smd: 41(-9.75,-12.55) 42(-9.25,-12.55) 43(-8.75,-12.55) 44(-8.25,-12.55) 45(-7.75,-12.55) 46(-7.25,-12.55) 47(-6.75,-12.55) 48(-6.25,-12.55) 49(-5.75,-12.55) 50(-5.25,-12.55) 51(-4.75,-12.55) 52(-4.25,-12.55) 53(-3.75,-12.55) 54(-3.25,-12.55) 55(-2.75,-12.55) 56(-2.25,-12.55) 57(-1.75,-12.55) 58(-1.25,-12.55) 59(-0.75,-12.55) 60(-0.25,-12.55) 61(0.25,-12.55) 62(0.75,-12.55) 63(1.25,-12.55) 64(1.75,-12.55) 65(2.25,-12.55) 66(2.75,-12.55) 67(3.25,-12.55) 68(3.75,-12.55) 69(4.25,-12.55) 70(4.75,-12.55) 71(5.25,-12.55) 72(5.75,-12.55) 73(6.25,-12.55) 74(6.75,-12.55) 75(7.25,-12.55) 76(7.75,-12.55) 77(8.25,-12.55) 78(8.75,-12.55) 79(9.25,-12.55) 80(9.75,-12.55) 121(9.75,12.55) 122(9.25,12.55) 123(8.75,12.55) 124(8.25,12.55) 125(7.75,12.55) 126(7.25,12.55) 127(6.75,12.55) 128(6.25,12.55) 129(5.75,12.55) 130(5.25,12.55) 131(4.75,12.55) 132(4.25,12.55) 133(3.75,12.55) 134(3.25,12.55) 135(2.75,12.55) 136(2.25,12.55) 137(1.75,12.55) 138(1.25,12.55) 139(0.75,12.55) 140(0.25,12.55) 141(-0.25,12.55) 142(-0.75,12.55) 143(-1.25,12.55) 144(-1.75,12.55) 145(-2.25,12.55) 146(-2.75,12.55) 147(-3.25,12.55) 148(-3.75,12.55) 149(-4.25,12.55) 150(-4.75,12.55) 151(-5.25,12.55) 152(-5.75,12.55) 153(-6.25,12.55) 154(-6.75,12.55) 155(-7.25,12.55) 156(-7.75,12.55) 157(-8.25,12.55) 158(-8.75,12.55) 159(-9.25,12.55) 160(-9.75,12.55)
Top Overlay:
  circle w0.6: c-10.25,10.25 r0.3
  circle w0.25: c-12.55,10.45 r0.125
  lines w0.2: -11.25,-11.25 11.25,-11.25 11.25,11.25 -11.25,11.25 -11.25,-11.25
Mechanical 13:
  circle w0.1: c-11.1,11.1 r0.5
  lines w0.1: -12,-12 12,-12 12,12 -12,12 -12,-12
Mechanical 15:
  lines w0.1: -0.5,0 0.5,0 ; 0,-0.5 0,0.5 ; -13.7,-13.7 13.7,-13.7 13.7,13.7 -13.7,13.7 -13.7,-13.7
3D body: height 1.6, standoff 0, extent -12,-12 12,12

## B144 [mm] "145-Pin Pin Grid Array 2.54 mm Pitch"
height 5.8
pads (145):
  rect 1.5x1.5 hole 0.9: A1(-17.78,17.78)
  round 1.5 hole 0.9: A2(-15.24,17.78) A3(-12.7,17.78) A4(-10.16,17.78) A5(-7.62,17.78) A6(-5.08,17.78) A7(-2.54,17.78) A8(0,17.78) A9(2.54,17.78) A10(5.08,17.78) A11(7.62,17.78) A12(10.16,17.78) A13(12.7,17.78) A14(15.24,17.78) A15(17.78,17.78) B1(-17.78,15.24) B2(-15.24,15.24) B3(-12.7,15.24) B4(-10.16,15.24) B5(-7.62,15.24) B6(-5.08,15.24) B7(-2.54,15.24) B8(0,15.24) B9(2.54,15.24) B10(5.08,15.24) B11(7.62,15.24) B12(10.16,15.24) B13(12.7,15.24) B14(15.24,15.24) B15(17.78,15.24) C1(-17.78,12.7) C2(-15.24,12.7) C3(-12.7,12.7) C4(-10.16,12.7) C5(-7.62,12.7) C6(-5.08,12.7) C7(-2.54,12.7) C8(0,12.7) C9(2.54,12.7) C10(5.08,12.7) C11(7.62,12.7) C12(10.16,12.7) C13(12.7,12.7) C14(15.24,12.7) C15(17.78,12.7) D1(-17.78,10.16) D2(-15.24,10.16) D3(-12.7,10.16) D4(-10.16,10.16) D13(12.7,10.16) D14(15.24,10.16) D15(17.78,10.16) E1(-17.78,7.62) E2(-15.24,7.62) E3(-12.7,7.62) E13(12.7,7.62) E14(15.24,7.62) E15(17.78,7.62) F1(-17.78,5.08) F2(-15.24,5.08) F3(-12.7,5.08) F13(12.7,5.08) F14(15.24,5.08) F15(17.78,5.08) G1(-17.78,2.54) G2(-15.24,2.54) G3(-12.7,2.54) G13(12.7,2.54) G14(15.24,2.54) G15(17.78,2.54) H1(-17.78,0) H2(-15.24,0) H3(-12.7,0) H13(12.7,0) H14(15.24,0) H15(17.78,0) J1(-17.78,-2.54) J2(-15.24,-2.54) J3(-12.7,-2.54) J13(12.7,-2.54) J14(15.24,-2.54) J15(17.78,-2.54) K1(-17.78,-5.08) K2(-15.24,-5.08) K3(-12.7,-5.08) K13(12.7,-5.08) K14(15.24,-5.08) K15(17.78,-5.08) L1(-17.78,-7.62) L2(-15.24,-7.62) L3(-12.7,-7.62) L13(12.7,-7.62) L14(15.24,-7.62) L15(17.78,-7.62) M1(-17.78,-10.16) M2(-15.24,-10.16) M3(-12.7,-10.16) M13(12.7,-10.16) M14(15.24,-10.16) M15(17.78,-10.16) N1(-17.78,-12.7) N2(-15.24,-12.7) N3(-12.7,-12.7) N4(-10.16,-12.7) N5(-7.62,-12.7) N6(-5.08,-12.7) N7(-2.54,-12.7) N8(0,-12.7) N9(2.54,-12.7) N10(5.08,-12.7) N11(7.62,-12.7) N12(10.16,-12.7) N13(12.7,-12.7) N14(15.24,-12.7) N15(17.78,-12.7) P1(-17.78,-15.24) P2(-15.24,-15.24) P3(-12.7,-15.24) P4(-10.16,-15.24) P5(-7.62,-15.24) P6(-5.08,-15.24) P7(-2.54,-15.24) P8(0,-15.24) P9(2.54,-15.24) P10(5.08,-15.24) P11(7.62,-15.24) P12(10.16,-15.24) P13(12.7,-15.24) P14(15.24,-15.24) P15(17.78,-15.24) R1(-17.78,-17.78) R2(-15.24,-17.78) R3(-12.7,-17.78) R4(-10.16,-17.78) R5(-7.62,-17.78) R6(-5.08,-17.78) R7(-2.54,-17.78) R8(0,-17.78) R9(2.54,-17.78) R10(5.08,-17.78) R11(7.62,-17.78) R12(10.16,-17.78) R13(12.7,-17.78) R14(15.24,-17.78) R15(17.78,-17.78)
Top Overlay:
  circle w0.25: c-20.6,17.78 r0.125
  lines w0.2: -19.95,-19.95 19.95,-19.95 19.95,19.95 -18.95,19.95 -19.95,18.95 -19.95,-19.95

## BA48A [mm] "48-Ball Ball Grid Array 0.75 mm Pitch"
height 1.2
pads (48):
  round 0.25 smd: A1(-1.875,2.625) A2(-1.125,2.625) A3(-0.375,2.625) A4(0.375,2.625) A5(1.125,2.625) A6(1.875,2.625) B1(-1.875,1.875) B2(-1.125,1.875) B3(-0.375,1.875) B4(0.375,1.875) B5(1.125,1.875) B6(1.875,1.875) C1(-1.875,1.125) C2(-1.125,1.125) C3(-0.375,1.125) C4(0.375,1.125) C5(1.125,1.125) C6(1.875,1.125) D1(-1.875,0.375) D2(-1.125,0.375) D3(-0.375,0.375) D4(0.375,0.375) D5(1.125,0.375) D6(1.875,0.375) E1(-1.875,-0.375) E2(-1.125,-0.375) E3(-0.375,-0.375) E4(0.375,-0.375) E5(1.125,-0.375) E6(1.875,-0.375) F1(-1.875,-1.125) F2(-1.125,-1.125) F3(-0.375,-1.125) F4(0.375,-1.125) F5(1.125,-1.125) F6(1.875,-1.125) G1(-1.875,-1.875) G2(-1.125,-1.875) G3(-0.375,-1.875) G4(0.375,-1.875) G5(1.125,-1.875) G6(1.875,-1.875) H1(-1.875,-2.625) H2(-1.125,-2.625) H3(-0.375,-2.625) H4(0.375,-2.625) H5(1.125,-2.625) H6(1.875,-2.625)
Top Overlay:
  circle w0.25: c-4.15,2.625 r0.125
  region: -2.5,3.5 -3.5,2.5 -3.5,3.5
  lines w0.2: -3.5,2.5 -2.5,3.5 ; -3.5,-3.5 -3.5,3.5 3.5,3.5 3.5,-3.5 -3.5,-3.5
Mechanical 13:
  lines w0.1: -3.5,-3.5 -3.5,3.5 3.5,3.5 3.5,-3.5 -3.5,-3.5
Mechanical 15:
  lines w0.1: -0.5,0 0.5,0 ; 0,-0.5 0,0.5 ; -4.5,-4.5 -4.5,4.5 4.5,4.5 4.5,-4.5 -4.5,-4.5
3D body: height 1.2, standoff 0, extent -3.5,-3.5 3.5,3.5

## BA50 [mm] "48-Ball Thin Ball Grid Array 0.8 mm Pitch"
height 1.2
pads (48):
  round 0.25 smd: A1(-2.8,2) A2(-2,2) A3(-1.2,2) A4(-0.4,2) A5(0.4,2) A6(1.2,2) A7(2,2) A8(2.8,2) B1(-2.8,1.2) B2(-2,1.2) B3(-1.2,1.2) B4(-0.4,1.2) B5(0.4,1.2) B6(1.2,1.2) B7(2,1.2) B8(2.8,1.2) C1(-2.8,0.4) C2(-2,0.4) C3(-1.2,0.4) C4(-0.4,0.4) C5(0.4,0.4) C6(1.2,0.4) C7(2,0.4) C8(2.8,0.4) D1(-2.8,-0.4) D2(-2,-0.4) D3(-1.2,-0.4) D4(-0.4,-0.4) D5(0.4,-0.4) D6(1.2,-0.4) D7(2,-0.4) D8(2.8,-0.4) E1(-2.8,-1.2) E2(-2,-1.2) E3(-1.2,-1.2) E4(-0.4,-1.2) E5(0.4,-1.2) E6(1.2,-1.2) E7(2,-1.2) E8(2.8,-1.2) F1(-2.8,-2) F2(-2,-2) F3(-1.2,-2) F4(-0.4,-2) F5(0.4,-2) F6(1.2,-2) F7(2,-2) F8(2.8,-2)
Top Overlay:
  circle w0.25: c-4.15,2.8 r0.125
  region: -2.5,3.5 -3.5,2.5 -3.5,3.5
  lines w0.2: -3.5,2.5 -2.5,3.5 ; -3.5,-3.5 -3.5,3.5 3.5,3.5 3.5,-3.5 -3.5,-3.5
Mechanical 13:
  lines w0.1: -3.5,-3.5 -3.5,3.5 3.5,3.5 3.5,-3.5 -3.5,-3.5
Mechanical 15:
  lines w0.1: -0.5,0 0.5,0 ; 0,-0.5 0,0.5 ; -4.5,-4.5 -4.5,4.5 4.5,4.5 4.5,-4.5 -4.5,-4.5
3D body: height 1.2, standoff 0, extent -3.5,-3.5 3.5,3.5

## BB100 [mm] "100-Ball Thin Ball Grid Array 1 mm Pitch"
height 1.4
pads (100):
  round 0.4 smd: A1(-4.5,4.5) A2(-3.5,4.5) A3(-2.5,4.5) A4(-1.5,4.5) A5(-0.5,4.5) A6(0.5,4.5) A7(1.5,4.5) A8(2.5,4.5) A9(3.5,4.5) A10(4.5,4.5) B1(-4.5,3.5) B2(-3.5,3.5) B3(-2.5,3.5) B4(-1.5,3.5) B5(-0.5,3.5) B6(0.5,3.5) B7(1.5,3.5) B8(2.5,3.5) B9(3.5,3.5) B10(4.5,3.5) C1(-4.5,2.5) C2(-3.5,2.5) C3(-2.5,2.5) C4(-1.5,2.5) C5(-0.5,2.5) C6(0.5,2.5) C7(1.5,2.5) C8(2.5,2.5) C9(3.5,2.5) C10(4.5,2.5) D1(-4.5,1.5) D2(-3.5,1.5) D3(-2.5,1.5) D4(-1.5,1.5) D5(-0.5,1.5) D6(0.5,1.5) D7(1.5,1.5) D8(2.5,1.5) D9(3.5,1.5) D10(4.5,1.5) E1(-4.5,0.5) E2(-3.5,0.5) E3(-2.5,0.5) E4(-1.5,0.5) E5(-0.5,0.5) E6(0.5,0.5) E7(1.5,0.5) E8(2.5,0.5) E9(3.5,0.5) E10(4.5,0.5) F1(-4.5,-0.5) F2(-3.5,-0.5) F3(-2.5,-0.5) F4(-1.5,-0.5) F5(-0.5,-0.5) F6(0.5,-0.5) F7(1.5,-0.5) F8(2.5,-0.5) F9(3.5,-0.5) F10(4.5,-0.5) G1(-4.5,-1.5) G2(-3.5,-1.5) G3(-2.5,-1.5) G4(-1.5,-1.5) G5(-0.5,-1.5) G6(0.5,-1.5) G7(1.5,-1.5) G8(2.5,-1.5) G9(3.5,-1.5) G10(4.5,-1.5) H1(-4.5,-2.5) H2(-3.5,-2.5) H3(-2.5,-2.5) H4(-1.5,-2.5) H5(-0.5,-2.5) H6(0.5,-2.5) H7(1.5,-2.5) H8(2.5,-2.5) H9(3.5,-2.5) H10(4.5,-2.5) J1(-4.5,-3.5) J2(-3.5,-3.5) J3(-2.5,-3.5) J4(-1.5,-3.5) J5(-0.5,-3.5) J6(0.5,-3.5) J7(1.5,-3.5) J8(2.5,-3.5) J9(3.5,-3.5) J10(4.5,-3.5) K1(-4.5,-4.5) K2(-3.5,-4.5) K3(-2.5,-4.5) K4(-1.5,-4.5) K5(-0.5,-4.5) K6(0.5,-4.5) K7(1.5,-4.5) K8(2.5,-4.5) K9(3.5,-4.5) K10(4.5,-4.5)
Top Overlay:
  circle w0.25: c-6.15,4.5 r0.125
  region: -4.5,5.5 -5.5,4.5 -5.5,5.5
  lines w0.2: -5.5,4.5 -4.5,5.5 ; -5.5,-5.5 -5.5,5.5 5.5,5.5 5.5,-5.5 -5.5,-5.5
Mechanical 13:
  lines w0.1: -5.5,-5.5 -5.5,5.5 5.5,5.5 5.5,-5.5 -5.5,-5.5
Mechanical 15:
  lines w0.1: -0.5,0 0.5,0 ; 0,-0.5 0,0.5 ; -6.5,-6.5 -6.5,6.5 6.5,6.5 6.5,-6.5 -6.5,-6.5
3D body: height 1.4, standoff 0, extent -5.5,-5.5 5.5,5.5

## BB256 [mm] "256-Ball Fine Pitch Ball Grid Array 1 mm Pitch (37K & 39K CPLD Devices)"
height 1.7
pads (256):
  round 0.4 smd: A1(-7.5,7.5) A2(-6.5,7.5) A3(-5.5,7.5) A4(-4.5,7.5) A5(-3.5,7.5) A6(-2.5,7.5) A7(-1.5,7.5) A8(-0.5,7.5) A9(0.5,7.5) A10(1.5,7.5) A11(2.5,7.5) A12(3.5,7.5) A13(4.5,7.5) A14(5.5,7.5) A15(6.5,7.5) A16(7.5,7.5) B1(-7.5,6.5) B2(-6.5,6.5) B3(-5.5,6.5) B4(-4.5,6.5) B5(-3.5,6.5) B6(-2.5,6.5) B7(-1.5,6.5) B8(-0.5,6.5) B9(0.5,6.5) B10(1.5,6.5) B11(2.5,6.5) B12(3.5,6.5) B13(4.5,6.5) B14(5.5,6.5) B15(6.5,6.5) B16(7.5,6.5) C1(-7.5,5.5) C2(-6.5,5.5) C3(-5.5,5.5) C4(-4.5,5.5) C5(-3.5,5.5) C6(-2.5,5.5) C7(-1.5,5.5) C8(-0.5,5.5) C9(0.5,5.5) C10(1.5,5.5) C11(2.5,5.5) C12(3.5,5.5) C13(4.5,5.5) C14(5.5,5.5) C15(6.5,5.5) C16(7.5,5.5) D1(-7.5,4.5) D2(-6.5,4.5) D3(-5.5,4.5) D4(-4.5,4.5) D5(-3.5,4.5) D6(-2.5,4.5) D7(-1.5,4.5) D8(-0.5,4.5) D9(0.5,4.5) D10(1.5,4.5) D11(2.5,4.5) D12(3.5,4.5) D13(4.5,4.5) D14(5.5,4.5) D15(6.5,4.5) D16(7.5,4.5) E1(-7.5,3.5) E2(-6.5,3.5) E3(-5.5,3.5) E4(-4.5,3.5) E5(-3.5,3.5) E6(-2.5,3.5) E7(-1.5,3.5) E8(-0.5,3.5) E9(0.5,3.5) E10(1.5,3.5) E11(2.5,3.5) E12(3.5,3.5) E13(4.5,3.5) E14(5.5,3.5) E15(6.5,3.5) E16(7.5,3.5) F1(-7.5,2.5) F2(-6.5,2.5) F3(-5.5,2.5) F4(-4.5,2.5) F5(-3.5,2.5) F6(-2.5,2.5) F7(-1.5,2.5) F8(-0.5,2.5) F9(0.5,2.5) F10(1.5,2.5) F11(2.5,2.5) F12(3.5,2.5) F13(4.5,2.5) F14(5.5,2.5) F15(6.5,2.5) F16(7.5,2.5) G1(-7.5,1.5) G2(-6.5,1.5) G3(-5.5,1.5) G4(-4.5,1.5) G5(-3.5,1.5) G6(-2.5,1.5) G7(-1.5,1.5) G8(-0.5,1.5) G9(0.5,1.5) G10(1.5,1.5) G11(2.5,1.5) G12(3.5,1.5) G13(4.5,1.5) G14(5.5,1.5) G15(6.5,1.5) G16(7.5,1.5) H1(-7.5,0.5) H2(-6.5,0.5) H3(-5.5,0.5) H4(-4.5,0.5) H5(-3.5,0.5) H6(-2.5,0.5) H7(-1.5,0.5) H8(-0.5,0.5) H9(0.5,0.5) H10(1.5,0.5) H11(2.5,0.5) H12(3.5,0.5) H13(4.5,0.5) H14(5.5,0.5) H15(6.5,0.5) H16(7.5,0.5) J1(-7.5,-0.5) J2(-6.5,-0.5) J3(-5.5,-0.5) J4(-4.5,-0.5) J5(-3.5,-0.5) J6(-2.5,-0.5) J7(-1.5,-0.5) J8(-0.5,-0.5) J9(0.5,-0.5) J10(1.5,-0.5) J11(2.5,-0.5) J12(3.5,-0.5) J13(4.5,-0.5) J14(5.5,-0.5) J15(6.5,-0.5) J16(7.5,-0.5) K1(-7.5,-1.5) K2(-6.5,-1.5) K3(-5.5,-1.5) K4(-4.5,-1.5) K5(-3.5,-1.5) K6(-2.5,-1.5) K7(-1.5,-1.5) K8(-0.5,-1.5) K9(0.5,-1.5) K10(1.5,-1.5) K11(2.5,-1.5) K12(3.5,-1.5) K13(4.5,-1.5) K14(5.5,-1.5) K15(6.5,-1.5) K16(7.5,-1.5) L1(-7.5,-2.5) L2(-6.5,-2.5) L3(-5.5,-2.5) L4(-4.5,-2.5) L5(-3.5,-2.5) L6(-2.5,-2.5) L7(-1.5,-2.5) L8(-0.5,-2.5) L9(0.5,-2.5) L10(1.5,-2.5) L11(2.5,-2.5) L12(3.5,-2.5) L13(4.5,-2.5) L14(5.5,-2.5) L15(6.5,-2.5) L16(7.5,-2.5) M1(-7.5,-3.5) M2(-6.5,-3.5) M3(-5.5,-3.5) M4(-4.5,-3.5) M5(-3.5,-3.5) M6(-2.5,-3.5) M7(-1.5,-3.5) M8(-0.5,-3.5) M9(0.5,-3.5) M10(1.5,-3.5) M11(2.5,-3.5) M12(3.5,-3.5) M13(4.5,-3.5) M14(5.5,-3.5) M15(6.5,-3.5) M16(7.5,-3.5) N1(-7.5,-4.5) N2(-6.5,-4.5) N3(-5.5,-4.5) N4(-4.5,-4.5) N5(-3.5,-4.5) N6(-2.5,-4.5) N7(-1.5,-4.5) N8(-0.5,-4.5) N9(0.5,-4.5) N10(1.5,-4.5) N11(2.5,-4.5) N12(3.5,-4.5) N13(4.5,-4.5) N14(5.5,-4.5) N15(6.5,-4.5) N16(7.5,-4.5) P1(-7.5,-5.5) P2(-6.5,-5.5) P3(-5.5,-5.5) P4(-4.5,-5.5) P5(-3.5,-5.5) P6(-2.5,-5.5) P7(-1.5,-5.5) P8(-0.5,-5.5) P9(0.5,-5.5) P10(1.5,-5.5) P11(2.5,-5.5) P12(3.5,-5.5) P13(4.5,-5.5) P14(5.5,-5.5) P15(6.5,-5.5) P16(7.5,-5.5) R1(-7.5,-6.5) R2(-6.5,-6.5) R3(-5.5,-6.5) R4(-4.5,-6.5) R5(-3.5,-6.5) R6(-2.5,-6.5) R7(-1.5,-6.5) R8(-0.5,-6.5) R9(0.5,-6.5) R10(1.5,-6.5) R11(2.5,-6.5) R12(3.5,-6.5) R13(4.5,-6.5) R14(5.5,-6.5) R15(6.5,-6.5) R16(7.5,-6.5) T1(-7.5,-7.5) T2(-6.5,-7.5) T3(-5.5,-7.5) T4(-4.5,-7.5) T5(-3.5,-7.5) T6(-2.5,-7.5) T7(-1.5,-7.5) T8(-0.5,-7.5) T9(0.5,-7.5) T10(1.5,-7.5) T11(2.5,-7.5) T12(3.5,-7.5) T13(4.5,-7.5) T14(5.5,-7.5) T15(6.5,-7.5) T16(7.5,-7.5)
Top Overlay:
  circle w0.25: c-9.15,7.5 r0.125
  region: -7.5,8.5 -8.5,7.5 -8.5,8.5
  lines w0.2: -8.5,7.5 -7.5,8.5 ; -8.5,-8.5 8.5,-8.5 8.5,8.5 -8.5,8.5 -8.5,-8.5
Mechanical 13:
  lines w0.1: -8.5,-8.5 8.5,-8.5 8.5,8.5 -8.5,8.5 -8.5,-8.5
Mechanical 15:
  lines w0.1: -0.5,0 0.5,0 ; 0,-0.5 0,0.5 ; -9.5,-9.5 9.5,-9.5 9.5,9.5 -9.5,9.5 -9.5,-9.5
3D body: height 1.7, standoff 0, extent -8.5,-8.5 8.5,8.5

## BB256_50 [mm] "256-Ball Fine Pitch Ball Grid Array 1 mm Pitch (Other Cypress devices)"
height 1.7
pads (256):
  round 0.45 smd: A1(-7.5,7.5) A2(-6.5,7.5) A3(-5.5,7.5) A4(-4.5,7.5) A5(-3.5,7.5) A6(-2.5,7.5) A7(-1.5,7.5) A8(-0.5,7.5) A9(0.5,7.5) A10(1.5,7.5) A11(2.5,7.5) A12(3.5,7.5) A13(4.5,7.5) A14(5.5,7.5) A15(6.5,7.5) A16(7.5,7.5) B1(-7.5,6.5) B2(-6.5,6.5) B3(-5.5,6.5) B4(-4.5,6.5) B5(-3.5,6.5) B6(-2.5,6.5) B7(-1.5,6.5) B8(-0.5,6.5) B9(0.5,6.5) B10(1.5,6.5) B11(2.5,6.5) B12(3.5,6.5) B13(4.5,6.5) B14(5.5,6.5) B15(6.5,6.5) B16(7.5,6.5) C1(-7.5,5.5) C2(-6.5,5.5) C3(-5.5,5.5) C4(-4.5,5.5) C5(-3.5,5.5) C6(-2.5,5.5) C7(-1.5,5.5) C8(-0.5,5.5) C9(0.5,5.5) C10(1.5,5.5) C11(2.5,5.5) C12(3.5,5.5) C13(4.5,5.5) C14(5.5,5.5) C15(6.5,5.5) C16(7.5,5.5) D1(-7.5,4.5) D2(-6.5,4.5) D3(-5.5,4.5) D4(-4.5,4.5) D5(-3.5,4.5) D6(-2.5,4.5) D7(-1.5,4.5) D8(-0.5,4.5) D9(0.5,4.5) D10(1.5,4.5) D11(2.5,4.5) D12(3.5,4.5) D13(4.5,4.5) D14(5.5,4.5) D15(6.5,4.5) D16(7.5,4.5) E1(-7.5,3.5) E2(-6.5,3.5) E3(-5.5,3.5) E4(-4.5,3.5) E5(-3.5,3.5) E6(-2.5,3.5) E7(-1.5,3.5) E8(-0.5,3.5) E9(0.5,3.5) E10(1.5,3.5) E11(2.5,3.5) E12(3.5,3.5) E13(4.5,3.5) E14(5.5,3.5) E15(6.5,3.5) E16(7.5,3.5) F1(-7.5,2.5) F2(-6.5,2.5) F3(-5.5,2.5) F4(-4.5,2.5) F5(-3.5,2.5) F6(-2.5,2.5) F7(-1.5,2.5) F8(-0.5,2.5) F9(0.5,2.5) F10(1.5,2.5) F11(2.5,2.5) F12(3.5,2.5) F13(4.5,2.5) F14(5.5,2.5) F15(6.5,2.5) F16(7.5,2.5) G1(-7.5,1.5) G2(-6.5,1.5) G3(-5.5,1.5) G4(-4.5,1.5) G5(-3.5,1.5) G6(-2.5,1.5) G7(-1.5,1.5) G8(-0.5,1.5) G9(0.5,1.5) G10(1.5,1.5) G11(2.5,1.5) G12(3.5,1.5) G13(4.5,1.5) G14(5.5,1.5) G15(6.5,1.5) G16(7.5,1.5) H1(-7.5,0.5) H2(-6.5,0.5) H3(-5.5,0.5) H4(-4.5,0.5) H5(-3.5,0.5) H6(-2.5,0.5) H7(-1.5,0.5) H8(-0.5,0.5) H9(0.5,0.5) H10(1.5,0.5) H11(2.5,0.5) H12(3.5,0.5) H13(4.5,0.5) H14(5.5,0.5) H15(6.5,0.5) H16(7.5,0.5) J1(-7.5,-0.5) J2(-6.5,-0.5) J3(-5.5,-0.5) J4(-4.5,-0.5) J5(-3.5,-0.5) J6(-2.5,-0.5) J7(-1.5,-0.5) J8(-0.5,-0.5) J9(0.5,-0.5) J10(1.5,-0.5) J11(2.5,-0.5) J12(3.5,-0.5) J13(4.5,-0.5) J14(5.5,-0.5) J15(6.5,-0.5) J16(7.5,-0.5) K1(-7.5,-1.5) K2(-6.5,-1.5) K3(-5.5,-1.5) K4(-4.5,-1.5) K5(-3.5,-1.5) K6(-2.5,-1.5) K7(-1.5,-1.5) K8(-0.5,-1.5) K9(0.5,-1.5) K10(1.5,-1.5) K11(2.5,-1.5) K12(3.5,-1.5) K13(4.5,-1.5) K14(5.5,-1.5) K15(6.5,-1.5) K16(7.5,-1.5) L1(-7.5,-2.5) L2(-6.5,-2.5) L3(-5.5,-2.5) L4(-4.5,-2.5) L5(-3.5,-2.5) L6(-2.5,-2.5) L7(-1.5,-2.5) L8(-0.5,-2.5) L9(0.5,-2.5) L10(1.5,-2.5) L11(2.5,-2.5) L12(3.5,-2.5) L13(4.5,-2.5) L14(5.5,-2.5) L15(6.5,-2.5) L16(7.5,-2.5) M1(-7.5,-3.5) M2(-6.5,-3.5) M3(-5.5,-3.5) M4(-4.5,-3.5) M5(-3.5,-3.5) M6(-2.5,-3.5) M7(-1.5,-3.5) M8(-0.5,-3.5) M9(0.5,-3.5) M10(1.5,-3.5) M11(2.5,-3.5) M12(3.5,-3.5) M13(4.5,-3.5) M14(5.5,-3.5) M15(6.5,-3.5) M16(7.5,-3.5) N1(-7.5,-4.5) N2(-6.5,-4.5) N3(-5.5,-4.5) N4(-4.5,-4.5) N5(-3.5,-4.5) N6(-2.5,-4.5) N7(-1.5,-4.5) N8(-0.5,-4.5) N9(0.5,-4.5) N10(1.5,-4.5) N11(2.5,-4.5) N12(3.5,-4.5) N13(4.5,-4.5) N14(5.5,-4.5) N15(6.5,-4.5) N16(7.5,-4.5) P1(-7.5,-5.5) P2(-6.5,-5.5) P3(-5.5,-5.5) P4(-4.5,-5.5) P5(-3.5,-5.5) P6(-2.5,-5.5) P7(-1.5,-5.5) P8(-0.5,-5.5) P9(0.5,-5.5) P10(1.5,-5.5) P11(2.5,-5.5) P12(3.5,-5.5) P13(4.5,-5.5) P14(5.5,-5.5) P15(6.5,-5.5) P16(7.5,-5.5) R1(-7.5,-6.5) R2(-6.5,-6.5) R3(-5.5,-6.5) R4(-4.5,-6.5) R5(-3.5,-6.5) R6(-2.5,-6.5) R7(-1.5,-6.5) R8(-0.5,-6.5) R9(0.5,-6.5) R10(1.5,-6.5) R11(2.5,-6.5) R12(3.5,-6.5) R13(4.5,-6.5) R14(5.5,-6.5) R15(6.5,-6.5) R16(7.5,-6.5) T1(-7.5,-7.5) T2(-6.5,-7.5) T3(-5.5,-7.5) T4(-4.5,-7.5) T5(-3.5,-7.5) T6(-2.5,-7.5) T7(-1.5,-7.5) T8(-0.5,-7.5) T9(0.5,-7.5) T10(1.5,-7.5) T11(2.5,-7.5) T12(3.5,-7.5) T13(4.5,-7.5) T14(5.5,-7.5) T15(6.5,-7.5) T16(7.5,-7.5)
Top Overlay:
  circle w0.25: c-9.15,7.5 r0.125
  region: -7.5,8.5 -8.5,7.5 -8.5,8.5
  lines w0.2: -8.5,7.5 -7.5,8.5 ; -8.5,-8.5 -8.5,8.5 8.5,8.5 8.5,-8.5 -8.5,-8.5
Mechanical 13:
  lines w0.1: -8.5,-8.5 -8.5,8.5 8.5,8.5 8.5,-8.5 -8.5,-8.5
Mechanical 15:
  lines w0.1: -0.5,0 0.5,0 ; 0,-0.5 0,0.5 ; -9.5,-9.5 -9.5,9.5 9.5,9.5 9.5,-9.5 -9.5,-9.5
3D body: height 1.7, standoff 0, extent -8.5,-8.5 8.5,8.5

## BB400 [mm] "400-Ball Fine Pitch Ball Grid Array 1 mm Pitch"
height 1.4
pads (400):
  round 0.4 smd: A1(-9.5,9.5) A2(-8.5,9.5) A3(-7.5,9.5) A4(-6.5,9.5) A5(-5.5,9.5) A6(-4.5,9.5) A7(-3.5,9.5) A8(-2.5,9.5) A9(-1.5,9.5) A10(-0.5,9.5) A11(0.5,9.5) A12(1.5,9.5) A13(2.5,9.5) A14(3.5,9.5) A15(4.5,9.5) A16(5.5,9.5) A17(6.5,9.5) A18(7.5,9.5) A19(8.5,9.5) A20(9.5,9.5) B1(-9.5,8.5) B2(-8.5,8.5) B3(-7.5,8.5) B4(-6.5,8.5) B5(-5.5,8.5) B6(-4.5,8.5) B7(-3.5,8.5) B8(-2.5,8.5) B9(-1.5,8.5) B10(-0.5,8.5) B11(0.5,8.5) B12(1.5,8.5) B13(2.5,8.5) B14(3.5,8.5) B15(4.5,8.5) B16(5.5,8.5) B17(6.5,8.5) B18(7.5,8.5) B19(8.5,8.5) B20(9.5,8.5) C1(-9.5,7.5) C2(-8.5,7.5) C3(-7.5,7.5) C4(-6.5,7.5) C5(-5.5,7.5) C6(-4.5,7.5) C7(-3.5,7.5) C8(-2.5,7.5) C9(-1.5,7.5) C10(-0.5,7.5) C11(0.5,7.5) C12(1.5,7.5) C13(2.5,7.5) C14(3.5,7.5) C15(4.5,7.5) C16(5.5,7.5) C17(6.5,7.5) C18(7.5,7.5) C19(8.5,7.5) C20(9.5,7.5) D1(-9.5,6.5) D2(-8.5,6.5) D3(-7.5,6.5) D4(-6.5,6.5) D5(-5.5,6.5) D6(-4.5,6.5) D7(-3.5,6.5) D8(-2.5,6.5) D9(-1.5,6.5) D10(-0.5,6.5) D11(0.5,6.5) D12(1.5,6.5) D13(2.5,6.5) D14(3.5,6.5) D15(4.5,6.5) D16(5.5,6.5) D17(6.5,6.5) D18(7.5,6.5) D19(8.5,6.5) D20(9.5,6.5) E1(-9.5,5.5) E2(-8.5,5.5) E3(-7.5,5.5) E4(-6.5,5.5) E5(-5.5,5.5) E6(-4.5,5.5) E7(-3.5,5.5) E8(-2.5,5.5) E9(-1.5,5.5) E10(-0.5,5.5) E11(0.5,5.5) E12(1.5,5.5) E13(2.5,5.5) E14(3.5,5.5) E15(4.5,5.5) E16(5.5,5.5) E17(6.5,5.5) E18(7.5,5.5) E19(8.5,5.5) E20(9.5,5.5) F1(-9.5,4.5) F2(-8.5,4.5) F3(-7.5,4.5) F4(-6.5,4.5) F5(-5.5,4.5) F6(-4.5,4.5) F7(-3.5,4.5) F8(-2.5,4.5) F9(-1.5,4.5) F10(-0.5,4.5) F11(0.5,4.5) F12(1.5,4.5) F13(2.5,4.5) F14(3.5,4.5) F15(4.5,4.5) F16(5.5,4.5) F17(6.5,4.5) F18(7.5,4.5) F19(8.5,4.5) F20(9.5,4.5) G1(-9.5,3.5) G2(-8.5,3.5) G3(-7.5,3.5) G4(-6.5,3.5) G5(-5.5,3.5) G6(-4.5,3.5) G7(-3.5,3.5) G8(-2.5,3.5) G9(-1.5,3.5) G10(-0.5,3.5) G11(0.5,3.5) G12(1.5,3.5) G13(2.5,3.5) G14(3.5,3.5) G15(4.5,3.5) G16(5.5,3.5) G17(6.5,3.5) G18(7.5,3.5) G19(8.5,3.5) G20(9.5,3.5) H1(-9.5,2.5) H2(-8.5,2.5) H3(-7.5,2.5) H4(-6.5,2.5) H5(-5.5,2.5) H6(-4.5,2.5) H7(-3.5,2.5) H8(-2.5,2.5) H9(-1.5,2.5) H10(-0.5,2.5) H11(0.5,2.5) H12(1.5,2.5) H13(2.5,2.5) H14(3.5,2.5) H15(4.5,2.5) H16(5.5,2.5) H17(6.5,2.5) H18(7.5,2.5) H19(8.5,2.5) H20(9.5,2.5) J1(-9.5,1.5) J2(-8.5,1.5) J3(-7.5,1.5) J4(-6.5,1.5) J5(-5.5,1.5) J6(-4.5,1.5) J7(-3.5,1.5) J8(-2.5,1.5) J9(-1.5,1.5) J10(-0.5,1.5) J11(0.5,1.5) J12(1.5,1.5) J13(2.5,1.5) J14(3.5,1.5) J15(4.5,1.5) J16(5.5,1.5) J17(6.5,1.5) J18(7.5,1.5) J19(8.5,1.5) J20(9.5,1.5) K1(-9.5,0.5) K2(-8.5,0.5) K3(-7.5,0.5) K4(-6.5,0.5) K5(-5.5,0.5) K6(-4.5,0.5) K7(-3.5,0.5) K8(-2.5,0.5) K9(-1.5,0.5) K10(-0.5,0.5) K11(0.5,0.5) K12(1.5,0.5) K13(2.5,0.5) K14(3.5,0.5) K15(4.5,0.5) K16(5.5,0.5) K17(6.5,0.5) K18(7.5,0.5) K19(8.5,0.5) K20(9.5,0.5) L1(-9.5,-0.5) L2(-8.5,-0.5) L3(-7.5,-0.5) L4(-6.5,-0.5) L5(-5.5,-0.5) L6(-4.5,-0.5) L7(-3.5,-0.5) L8(-2.5,-0.5) L9(-1.5,-0.5) L10(-0.5,-0.5) L11(0.5,-0.5) L12(1.5,-0.5) L13(2.5,-0.5) L14(3.5,-0.5) L15(4.5,-0.5) L16(5.5,-0.5) L17(6.5,-0.5) L18(7.5,-0.5) L19(8.5,-0.5) L20(9.5,-0.5) M1(-9.5,-1.5) M2(-8.5,-1.5) M3(-7.5,-1.5) M4(-6.5,-1.5) M5(-5.5,-1.5) M6(-4.5,-1.5) M7(-3.5,-1.5) M8(-2.5,-1.5) M9(-1.5,-1.5) M10(-0.5,-1.5) M11(0.5,-1.5) M12(1.5,-1.5) M13(2.5,-1.5) M14(3.5,-1.5) M15(4.5,-1.5) M16(5.5,-1.5) M17(6.5,-1.5) M18(7.5,-1.5) M19(8.5,-1.5) M20(9.5,-1.5) N1(-9.5,-2.5) N2(-8.5,-2.5) N3(-7.5,-2.5) N4(-6.5,-2.5) N5(-5.5,-2.5) N6(-4.5,-2.5) N7(-3.5,-2.5) N8(-2.5,-2.5) N9(-1.5,-2.5) N10(-0.5,-2.5) N11(0.5,-2.5) N12(1.5,-2.5) N13(2.5,-2.5) N14(3.5,-2.5) N15(4.5,-2.5) N16(5.5,-2.5) N17(6.5,-2.5) N18(7.5,-2.5) N19(8.5,-2.5) N20(9.5,-2.5) P1(-9.5,-3.5) P2(-8.5,-3.5) P3(-7.5,-3.5) P4(-6.5,-3.5) P5(-5.5,-3.5) P6(-4.5,-3.5) P7(-3.5,-3.5) P8(-2.5,-3.5) P9(-1.5,-3.5) P10(-0.5,-3.5) P11(0.5,-3.5) P12(1.5,-3.5) P13(2.5,-3.5) P14(3.5,-3.5) P15(4.5,-3.5) P16(5.5,-3.5) P17(6.5,-3.5) P18(7.5,-3.5) P19(8.5,-3.5) P20(9.5,-3.5) R1(-9.5,-4.5) R2(-8.5,-4.5) R3(-7.5,-4.5) R4(-6.5,-4.5) R5(-5.5,-4.5) R6(-4.5,-4.5) R7(-3.5,-4.5) R8(-2.5,-4.5) R9(-1.5,-4.5) R10(-0.5,-4.5) R11(0.5,-4.5) R12(1.5,-4.5) R13(2.5,-4.5) R14(3.5,-4.5) R15(4.5,-4.5) R16(5.5,-4.5) R17(6.5,-4.5) R18(7.5,-4.5) R19(8.5,-4.5) R20(9.5,-4.5) T1(-9.5,-5.5) T2(-8.5,-5.5) T3(-7.5,-5.5) T4(-6.5,-5.5) T5(-5.5,-5.5) T6(-4.5,-5.5) T7(-3.5,-5.5) T8(-2.5,-5.5) T9(-1.5,-5.5) T10(-0.5,-5.5) T11(0.5,-5.5) T12(1.5,-5.5) T13(2.5,-5.5) T14(3.5,-5.5) T15(4.5,-5.5) T16(5.5,-5.5) T17(6.5,-5.5) T18(7.5,-5.5) T19(8.5,-5.5) T20(9.5,-5.5) U1(-9.5,-6.5) U2(-8.5,-6.5) U3(-7.5,-6.5) U4(-6.5,-6.5) U5(-5.5,-6.5) U6(-4.5,-6.5) U7(-3.5,-6.5) U8(-2.5,-6.5) U9(-1.5,-6.5) U10(-0.5,-6.5) U11(0.5,-6.5) U12(1.5,-6.5) U13(2.5,-6.5) U14(3.5,-6.5) U15(4.5,-6.5) U16(5.5,-6.5) U17(6.5,-6.5) U18(7.5,-6.5) U19(8.5,-6.5) U20(9.5,-6.5) V1(-9.5,-7.5) V2(-8.5,-7.5) V3(-7.5,-7.5) V4(-6.5,-7.5) V5(-5.5,-7.5) V6(-4.5,-7.5) V7(-3.5,-7.5) V8(-2.5,-7.5) V9(-1.5,-7.5) V10(-0.5,-7.5) V11(0.5,-7.5) V12(1.5,-7.5) V13(2.5,-7.5) V14(3.5,-7.5) V15(4.5,-7.5) V16(5.5,-7.5) V17(6.5,-7.5) V18(7.5,-7.5) V19(8.5,-7.5) V20(9.5,-7.5) W1(-9.5,-8.5) W2(-8.5,-8.5) W3(-7.5,-8.5) W4(-6.5,-8.5) W5(-5.5,-8.5) W6(-4.5,-8.5) W7(-3.5,-8.5) W8(-2.5,-8.5) W9(-1.5,-8.5) W10(-0.5,-8.5) W11(0.5,-8.5) W12(1.5,-8.5) W13(2.5,-8.5) W14(3.5,-8.5) W15(4.5,-8.5) W16(5.5,-8.5) W17(6.5,-8.5) W18(7.5,-8.5) W19(8.5,-8.5) W20(9.5,-8.5) Y1(-9.5,-9.5) Y2(-8.5,-9.5) Y3(-7.5,-9.5) Y4(-6.5,-9.5) Y5(-5.5,-9.5) Y6(-4.5,-9.5) Y7(-3.5,-9.5) Y8(-2.5,-9.5) Y9(-1.5,-9.5) Y10(-0.5,-9.5) Y11(0.5,-9.5) Y12(1.5,-9.5) Y13(2.5,-9.5) Y14(3.5,-9.5) Y15(4.5,-9.5) Y16(5.5,-9.5) Y17(6.5,-9.5) Y18(7.5,-9.5) Y19(8.5,-9.5) Y20(9.5,-9.5)
Top Overlay:
  circle w0.25: c-11.15,9.5 r0.125
  region: -9.5,10.5 -10.5,9.5 -10.5,10.5
  lines w0.2: -10.5,9.5 -9.5,10.5 ; -10.5,-10.5 -10.5,10.5 10.5,10.5 10.5,-10.5 -10.5,-10.5
Mechanical 13:
  lines w0.1: -10.5,-10.5 -10.5,10.5 10.5,10.5 10.5,-10.5 -10.5,-10.5
Mechanical 15:
  lines w0.1: -0.5,0 0.5,0 ; 0,-0.5 0,0.5 ; -11.5,-11.5 -11.5,11.5 11.5,11.5 11.5,-11.5 -11.5,-11.5
3D body: height 1.4, standoff 0, extent -10.5,-10.5 10.5,10.5